# EAGLE library part LOGINATOR (library KwanSystems)
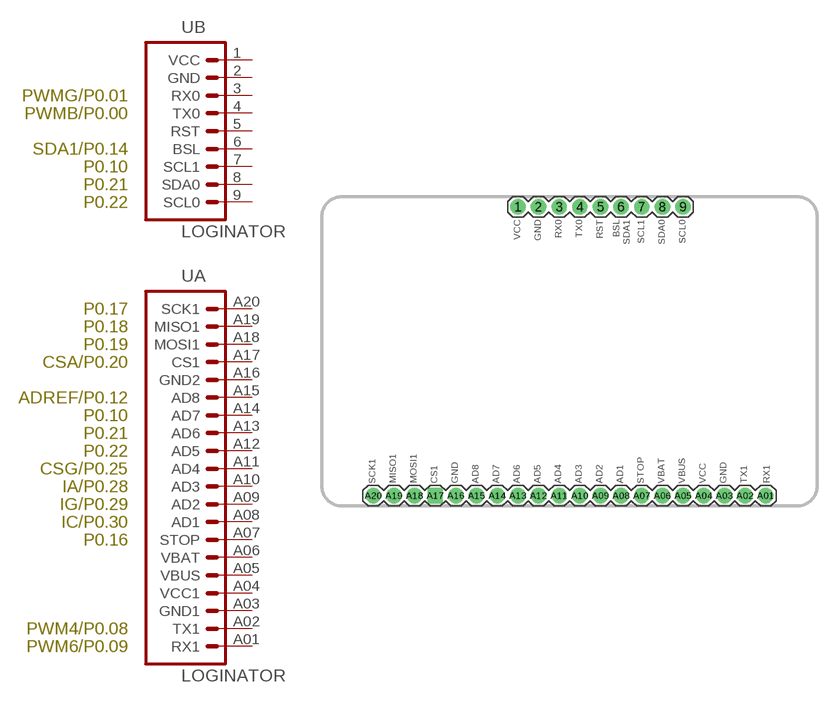
[diagram p40: symbol with the pads of LOGINATOR; footprint LOGINATOR]

Designator prefix -; gates B=LOGINATOR_9 A=LOGINATOR_20

## LOGINATOR  [LOGINATOR]
1  B:VCC  pwr
2  B:GND  pwr
3  B:RX0  in
4  B:TX0  out
5  B:RST  in
6  B:BSL  in
7  B:SCL1
8  B:SDA0
9  B:SCL0
A01  A:RX1  in
A02  A:TX1  out
A03  A:GND1  pwr
A04  A:VCC1  pwr
A05  A:VBUS  pwr
A06  A:VBAT  pwr
A07  A:STOP
A08  A:AD1
A09  A:AD2
A10  A:AD3
A11  A:AD4
A12  A:AD5
A13  A:AD6
A14  A:AD7
A15  A:AD8
A16  A:GND2  pwr
A17  A:CS1
A18  A:MOSI1
A19  A:MISO1
A20  A:SCK1

## Footprint LOGINATOR (pad centres in mm)
drill 1.016 pad 1.88: 1 24.13,36.83; 2 26.67,36.83; 3 29.21,36.83; 4 31.75,36.83; 5 34.29,36.83; 6 36.83,36.83; 7 39.37,36.83; 8 41.91,36.83; 9 44.45,36.83; A01 54.61,1.27; A02 52.07,1.27; A03 49.53,1.27; A04 46.99,1.27; A05 44.45,1.27; A06 41.91,1.27; A07 39.37,1.27; A08 36.83,1.27; A09 34.29,1.27; A10 31.75,1.27; A11 29.21,1.27; A12 26.67,1.27; A13 24.13,1.27; A14 21.59,1.27; A15 19.05,1.27; A16 16.51,1.27; A18 11.43,1.27; A19 8.89,1.27; A20 6.35,1.27
drill 1.016 pad 1.88 square: A17 13.97,1.27